# EAGLE library part AMG8854 (library AMG8854)
Product: Infrared Array Sensor Grid-EYE, Series/Type: AMG88xx (High performance type), Number of pixel: 64 (Vertical 8 x Horizontal 8 Matrix), Operating voltage (DC) (V): 5, Viewing angle (): 60, Amplification factor: Low gain, Mounting form: Surface Mount Type Source: Datasheet <https://industrial.panasonic.com/cdbs/www-data/pdf/ADI8000/ADI8000C66.pdf>
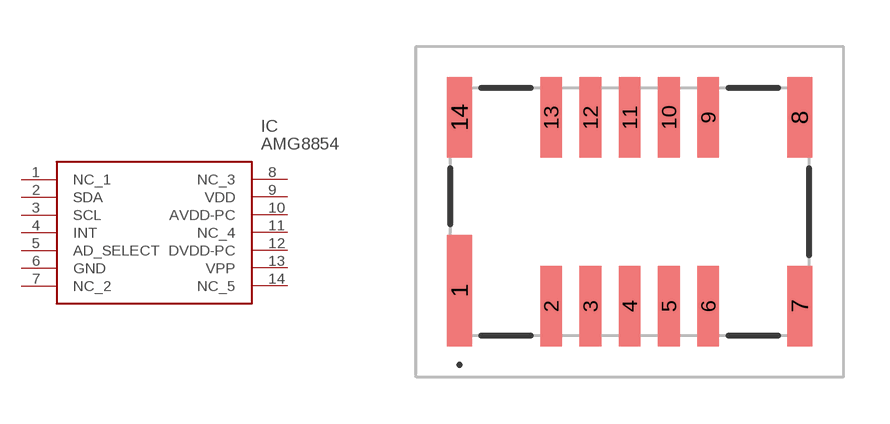
[diagram p0: symbol with the pads of AMG8854; footprint AMG8854]

Designator prefix IC

## AMG8854 (Description: Product: Infrared Array Sensor Grid-EYE, Series/Type: AMG88xx (High performance type), Number of pixel: 64 (Vertical 8 x Horizontal 8 Matrix), Operating voltage (DC) (V): 5, Viewing angle (): 60, Amplification factor: Low gain, Mounting form: Surface Mount Type; Height: 4.3mm; Manufacturer_Name: Panasonic; Manufacturer_Part_Number: AMG8854; Mouser_Part_Number: 667-AMG8854; Mouser_Price-Stock: https://www.mouser.co.uk/ProductDetail/Panasonic/AMG8854?qs=sSYV1F9c5cGiWvzHDbpBOw%3D%3D)  [AMG8854]
1  NC_1
2  SDA
3  SCL
4  INT
5  AD_SELECT
6  GND
7  NC_2
8  NC_3
9  VDD
10  AVDD-PC
11  NC_4
12  DVDD-PC
13  VPP
14  NC_5

## Footprint AMG8854 (pad centres in mm)
AMG8854
smd 0.8 x 3.6: 1 -5.5,-2.55
smd 0.7 x 2.6: 2 -2.54,-3.05; 3 -1.27,-3.05; 4 0,-3.05; 5 1.27,-3.05; 6 2.54,-3.05; 9 2.54,3.05; 10 1.27,3.05; 11 0,3.05; 12 -1.27,3.05; 13 -2.54,3.05
smd 0.8 x 2.6: 7 5.5,-3.05; 8 5.5,3.05; 14 -5.5,3.05